# EAGLE library part ISL9016IRUBBZ-T (library LDO_ISL9016IRUBBZT)
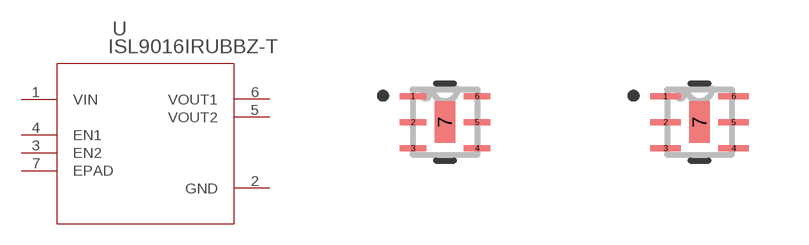
[diagram p0: symbol with the pads of UTDFN6_1P65X1P65; footprints UTDFN6_1P65X1P65, UTDFN6_1P65X1P65-M]

Designator prefix U

## ISL9016IRUBBZ-T (MANUFACTURER_PART_NUMBER: ISL9016IRUBBZT; VENDOR: Intersil)  [UTDFN6_1P65X1P65]
1  VIN  in
2  GND  pwr
3  EN2  pas
4  EN1  pas
5  VOUT2  out
6  VOUT1  out
7  EPAD  pas

## ISL9016IRUBBZ-TUTDFN6_1P65X1P65-M (MANUFACTURER_PART_NUMBER: ISL9016IRUBBZT; VENDOR: Intersil)  [UTDFN6_1P65X1P65-M]
Pads as for UTDFN6_1P65X1P65

## ISL9016IRUBBZ-TUTDFN6_1P65X1P65-L (MANUFACTURER_PART_NUMBER: ISL9016IRUBBZT; VENDOR: Intersil)  [UTDFN6_1P65X1P65-L]
Pads as for UTDFN6_1P65X1P65

## Footprint UTDFN6_1P65X1P65 (pad centres in mm)
smd 0.66 x 0.152: 1 -0.8,0.65; 2 -0.8,0; 3 -0.8,-0.65; 4 0.8,-0.65; 5 0.8,0; 6 0.8,0.65
smd 0.508 x 1.041: 7 0,0

## Footprint UTDFN6_1P65X1P65-M (pad centres in mm)
smd 0.762 x 0.152: 1 -0.851,0.65; 2 -0.851,0; 3 -0.851,-0.65; 4 0.851,-0.65; 5 0.851,0; 6 0.851,0.65
smd 0.508 x 1.041: 7 0,0

## Footprint UTDFN6_1P65X1P65-L (pad centres in mm)
smd 0.559 x 0.152: 1 -0.749,0.65; 2 -0.749,0; 3 -0.749,-0.65; 4 0.749,-0.65; 5 0.749,0; 6 0.749,0.65
smd 0.508 x 1.041: 7 0,0